# EAGLE library part PT2257 (library SaintGimp)
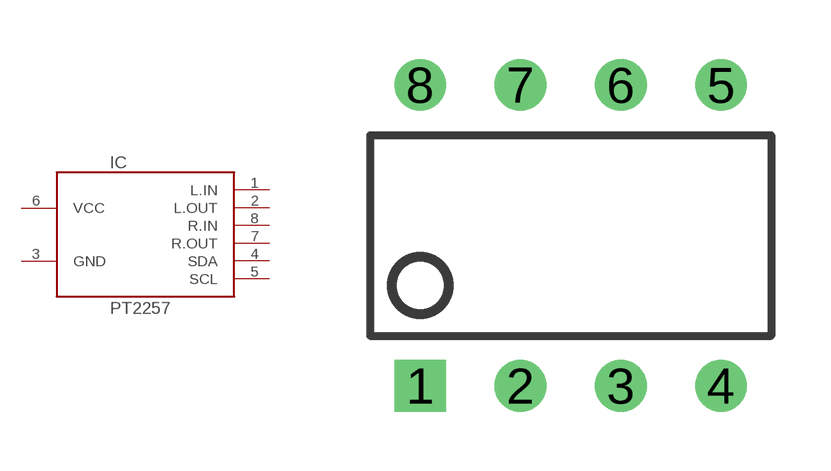
[diagram p15: symbol with the pads of DIP08; footprint DIP08]

Designator prefix IC

## PT2257  [DIP08]
1  L.IN
2  L.OUT
3  GND  pas
4  SDA
5  SCL
6  VCC  pwr
7  R.OUT
8  R.IN

## Footprint DIP08 (pad centres in mm)
Dual In Line
drill 0.8 square: 1 -3.81,-3.81
drill 0.8: 2 -1.27,-3.81; 3 1.27,-3.81; 4 3.81,-3.81; 5 3.81,3.81; 6 1.27,3.81; 7 -1.27,3.81; 8 -3.81,3.81